# Altium footprint library Audio Connector.PcbLib: 2 footprints
Each footprint in its own frame and in the unit in brackets; x right, y up, seen from the top. Pads: shape width x height; smd on the part's side, far side on the other; paste and mask are expansions set on the pad; w line width, h text height; cw(c..) or ccw(c..) is an arc to the next point about the centre after c.
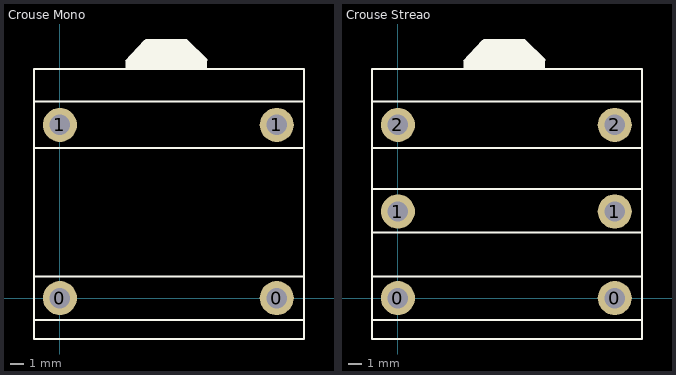
[diagram p0: the footprints below, top view; thin cyan lines are the x and y axes]

## Crouse Mono [mm]
pads (4):
  round 2.5 hole 1.5: 0(0,0) 0(15.9,0) 1(0,12.7) 1(15.9,12.7)
Top Overlay:
  rectangle: 4.8,16.8 10.8,17.4
  region: 4.8,17.4 6.2,18.9 6.3,19 9.3,19 10.8,17.5 10.8,17.4
  lines w0.15: -1.9,-1.6 17.9,-1.6 ; -1.9,1.6 17.9,1.6 ; -1.9,11 17.9,11 ; -1.9,14.4 17.9,14.4 ; -1.9,-3 -1.9,16.8 17.9,16.8 17.9,-3 -1.9,-3
3D body "User Library-Audio Jack Neutrik Amphenol 6_35.STEP": height 16.29, standoff -3.64, extent -1.2,-12.297 17,19.497

## Crouse Streao [mm]
pads (6):
  round 2.5 hole 1.5: 0(0,0) 0(15.9,0) 1(0,6.35) 1(15.9,6.35) 2(0,12.7) 2(15.9,12.7)
Top Overlay:
  rectangle: 4.8,16.8 10.8,17.4
  region: 4.8,17.4 6.2,18.9 6.3,19 9.3,19 10.8,17.5 10.8,17.4
  lines w0.15: -1.9,-1.6 17.9,-1.6 ; -1.9,1.6 17.9,1.6 ; -1.9,4.8 17.8,4.8 ; -1.9,8 17.8,8 ; -1.9,11 17.9,11 ; -1.9,14.4 17.9,14.4 ; -1.9,-3 -1.9,16.8 17.9,16.8 17.9,-3 -1.9,-3
3D body "User Library-Audio Jack Neutrik Amphenol 6_35.STEP": height 16.29, standoff -3.64, extent -1.2,-12.297 17,19.497